# Altium schematic symbol library piox-bee.SCHLIB: 3 symbols
Pins are listed as number, name and electrical type; pins without a type are passive.

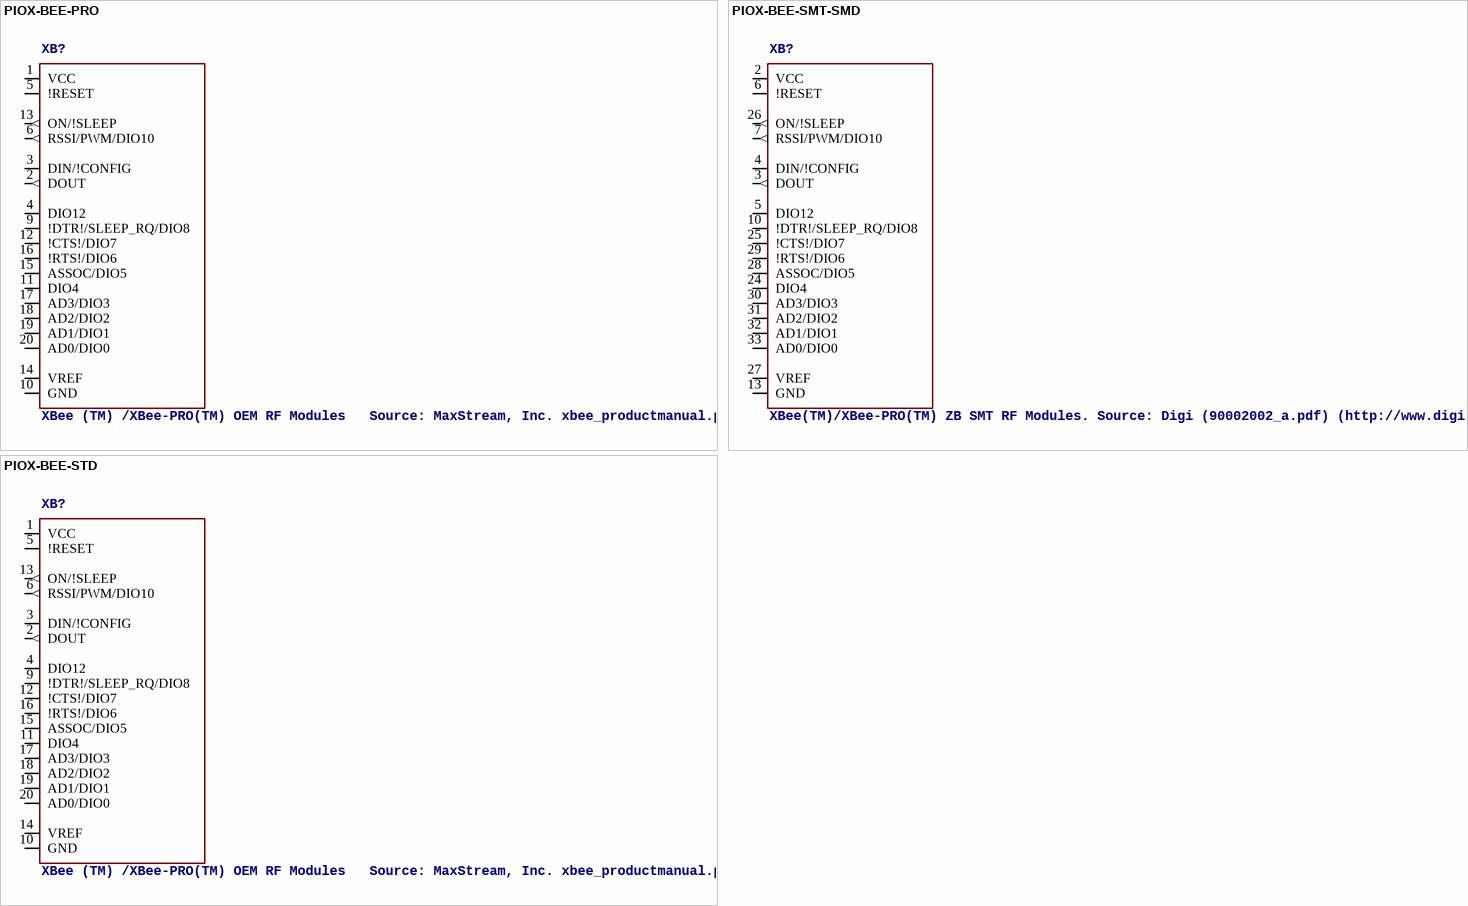
[diagram p0: symbols PIOX-BEE-PRO to PIOX-BEE-STD]

## PIOX-BEE-PRO
designator XB?, comment XBee (TM) /XBee-PRO(TM) OEM RF Modules   Source: MaxStream, Inc. xbee_productmanual.pdf
PIOX_ON: 113
footprint PIOX-BEE-PRO
pins: 1 VCC (power), 2 DOUT (out), 3 DIN/!CONFIG, 4 DIO12, 5 !RESET, 6 RSSI/PWM/DIO10 (out), 9 !DTR!/SLEEP_RQ/DIO8, 10 GND (power), 11 DIO4, 12 !CTS!/DIO7, 13 ON/!SLEEP (out), 14 VREF, 15 ASSOC/DIO5, 16 !RTS!/DIO6, 17 AD3/DIO3, 18 AD2/DIO2, 19 AD1/DIO1, 20 AD0/DIO0

## PIOX-BEE-SMT-SMD
designator XB?, comment XBee(TM)/XBee-PRO(TM) ZB SMT RF Modules. Source: Digi (90002002_a.pdf) (http://www.digi.com/products/wireless-wired-embedded-solutions/zigbee-rf-modules/zigbee-mesh-module/xbee-smt.jsp#overview)
footprint PIOX-BEE-SMT
pins: 2 VCC (power), 3 DOUT (out), 4 DIN/!CONFIG, 5 DIO12, 6 !RESET, 7 RSSI/PWM/DIO10 (out), 10 !DTR!/SLEEP_RQ/DIO8, 13 GND (power), 24 DIO4, 25 !CTS!/DIO7, 26 ON/!SLEEP (out), 27 VREF, 28 ASSOC/DIO5, 29 !RTS!/DIO6, 30 AD3/DIO3, 31 AD2/DIO2, 32 AD1/DIO1, 33 AD0/DIO0

## PIOX-BEE-STD
designator XB?, comment XBee (TM) /XBee-PRO(TM) OEM RF Modules   Source: MaxStream, Inc. xbee_productmanual.pdf
PIOX_ON: 112
footprint PIOX-BEE
pins: 1 VCC (power), 2 DOUT (out), 3 DIN/!CONFIG, 4 DIO12, 5 !RESET, 6 RSSI/PWM/DIO10 (out), 9 !DTR!/SLEEP_RQ/DIO8, 10 GND (power), 11 DIO4, 12 !CTS!/DIO7, 13 ON/!SLEEP (out), 14 VREF, 15 ASSOC/DIO5, 16 !RTS!/DIO6, 17 AD3/DIO3, 18 AD2/DIO2, 19 AD1/DIO1, 20 AD0/DIO0